# Altium footprint library PH2.0.PcbLib: 64 footprints (part 2 of 4)
Each footprint in its own frame and in the unit in brackets; x right, y up, seen from the top. Pads: shape width x height; smd on the part's side, far side on the other; paste and mask are expansions set on the pad; w line width, h text height; cw(c..) or ccw(c..) is an arc to the next point about the centre after c.
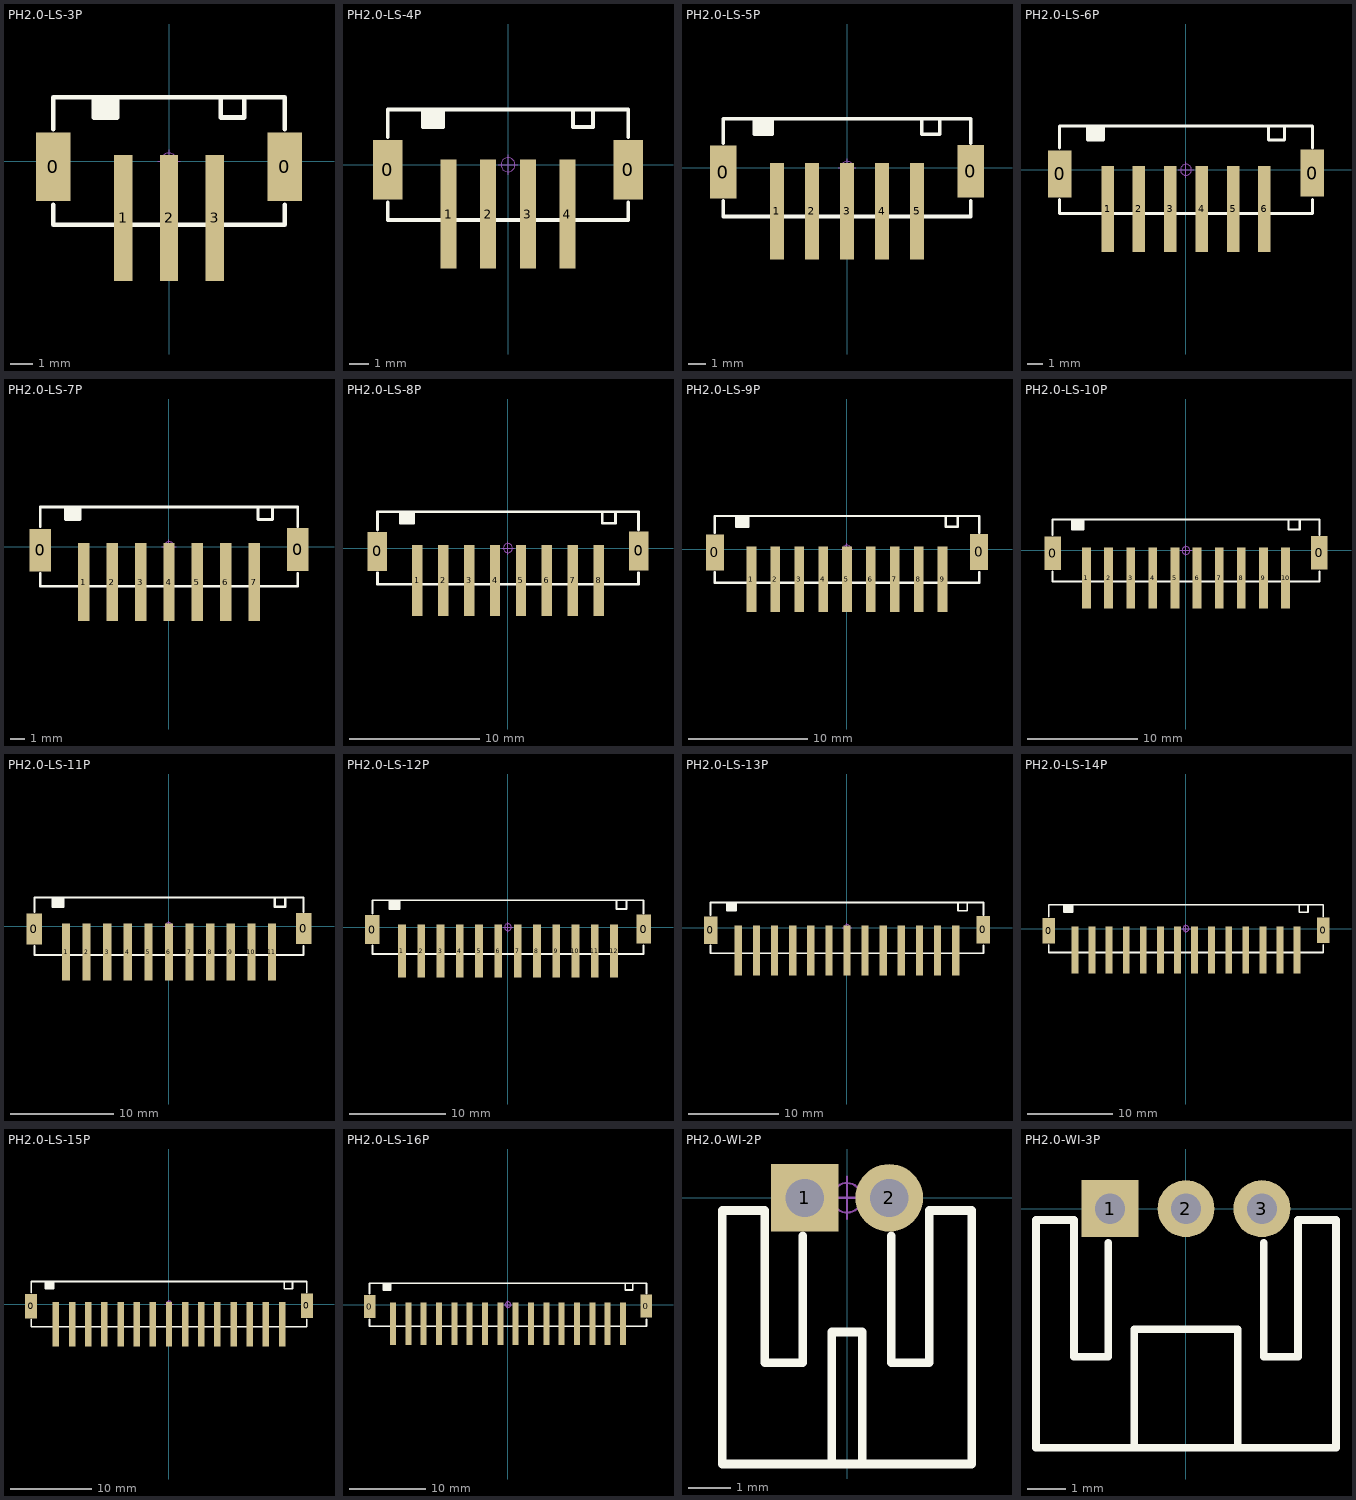
[diagram p1: the footprints below, top view; thin cyan lines are the x and y axes]

## PH2.0-LS-3P [mm] "长：10mm，宽：5.5mm，高：6.1mm"
pads (5):
  rect 1.5x3 smd: 0(-5.064,-0.254) 0(5.064,-0.254)
  rect 0.8x5.5 smd: 1(-2,-2.492) 2(0,-2.492) 3(2,-2.492)
Top Overlay:
  rectangle: -3.286,1.905 -2.27,2.794
  lines w0.2: -5.064,-1.905 -5.064,-2.794 5.064,-2.794 5.064,-1.905 ; -5.064,1.397 -5.064,2.794 5.064,2.794 5.064,1.397 ; -3.286,2.794 -3.286,1.905 -2.27,1.905 -2.27,2.794 ; 2.27,2.794 2.27,1.905 3.286,1.905 3.286,2.794
Mechanical 15:
  circle w0.05: c0,0 r0.35
  lines w0.05: -0.5,0 0.5,0 ; 0,-0.5 0,0.5
3D body: height 6.15, standoff 0, extent -5,-5.05 5,2.75

## PH2.0-LS-4P [mm] "长：12mm，宽：5.5mm，高：6.1mm"
pads (6):
  rect 1.5x3 smd: 0(-6.064,-0.254) 0(6.064,-0.254)
  rect 0.8x5.5 smd: 1(-3,-2.492) 2(-1,-2.492) 3(1,-2.492) 4(3,-2.492)
Top Overlay:
  rectangle: -4.286,1.905 -3.27,2.794
  lines w0.2: -6.064,-1.905 -6.064,-2.794 6.064,-2.794 6.064,-1.905 ; -6.064,1.397 -6.064,2.794 6.064,2.794 6.064,1.397 ; -4.286,2.794 -4.286,1.905 -3.27,1.905 -3.27,2.794 ; 3.27,2.794 3.27,1.905 4.286,1.905 4.286,2.794
Mechanical 15:
  circle w0.05: c0,0 r0.35
  lines w0.05: -0.5,0 0.5,0 ; 0,-0.5 0,0.5
3D body: height 6.15, standoff 0, extent -6,-5.05 6,2.75

## PH2.0-LS-5P [mm] "长：14mm，宽：5.5mm，高：6.1mm"
pads (7):
  rect 1.5x3 smd: 0(-7.064,-0.254) 0(7.064,-0.206)
  rect 0.8x5.5 smd: 1(-4,-2.492) 2(-2,-2.492) 3(0,-2.492) 4(2,-2.492) 5(4,-2.492)
Top Overlay:
  rectangle: -5.286,1.905 -4.27,2.794
  lines w0.2: -7.064,-1.905 -7.064,-2.794 7.064,-2.794 7.064,-1.905 ; -7.064,1.397 -7.064,2.794 7.064,2.794 7.064,1.397 ; -5.286,2.794 -5.286,1.905 -4.27,1.905 -4.27,2.794 ; 4.27,2.794 4.27,1.905 5.286,1.905 5.286,2.794
Mechanical 15:
  circle w0.05: c0,0 r0.35
  lines w0.05: -0.5,0 0.5,0 ; 0,-0.5 0,0.5
3D body: height 6.15, standoff 0, extent -7,-5.05 7,2.75

## PH2.0-LS-6P [mm] "长：16mm，宽：5.5mm，高：6.1mm"
pads (8):
  rect 1.5x3 smd: 0(-8.064,-0.254) 0(8.064,-0.206)
  rect 0.8x5.5 smd: 1(-5,-2.492) 2(-3,-2.492) 3(-1,-2.492) 4(1,-2.492) 5(3,-2.492) 6(5,-2.492)
Top Overlay:
  rectangle: -6.286,1.905 -5.27,2.794
  lines w0.2: -8.064,-1.905 -8.064,-2.794 8.064,-2.794 8.064,-1.905 ; -8.064,1.397 -8.064,2.794 8.064,2.794 8.064,1.397 ; -6.286,2.794 -6.286,1.905 -5.27,1.905 -5.27,2.794 ; 5.27,2.794 5.27,1.905 6.286,1.905 6.286,2.794
Mechanical 15:
  circle w0.05: c0,0 r0.35
  lines w0.05: -0.5,0 0.5,0 ; 0,-0.5 0,0.5
3D body: height 6.15, standoff 0, extent -8,-5.05 8,2.75

## PH2.0-LS-7P [mm] "长：18mm，宽：5.5mm，高：6.1mm"
pads (9):
  rect 1.5x3 smd: 0(-9.064,-0.254) 0(9.064,-0.206)
  rect 0.8x5.5 smd: 1(-6,-2.492) 2(-4,-2.492) 3(-2,-2.492) 4(0,-2.492) 5(2,-2.492) 6(4,-2.492) 7(6,-2.492)
Top Overlay:
  rectangle: -7.286,1.905 -6.27,2.794
  lines w0.2: -9.064,-1.905 -9.064,-2.794 9.064,-2.794 9.064,-1.905 ; -9.064,1.397 -9.064,2.794 9.064,2.794 9.064,1.397 ; -7.286,2.794 -7.286,1.905 -6.27,1.905 -6.27,2.794 ; 6.27,2.794 6.27,1.905 7.286,1.905 7.286,2.794
Mechanical 15:
  circle w0.05: c0,0 r0.35
  lines w0.05: -0.5,0 0.5,0 ; 0,-0.5 0,0.5
3D body: height 6.15, standoff 0, extent -9,-5.05 9,2.75

## PH2.0-LS-8P [mm] "长：20mm，宽：5.5mm，高：6.1mm"
pads (10):
  rect 1.5x3 smd: 0(-10.064,-0.254) 0(10.064,-0.206)
  rect 0.8x5.5 smd: 1(-7,-2.492) 2(-5,-2.492) 3(-3,-2.492) 4(-1,-2.492) 5(1,-2.492) 6(3,-2.492) 7(5,-2.492) 8(7,-2.492)
Top Overlay:
  rectangle: -8.286,1.905 -7.27,2.794
  lines w0.2: -10.064,-1.905 -10.064,-2.794 10.064,-2.794 10.064,-1.905 ; -10.064,1.397 -10.064,2.794 10.064,2.794 10.064,1.397 ; -8.286,2.794 -8.286,1.905 -7.27,1.905 -7.27,2.794 ; 7.27,2.794 7.27,1.905 8.286,1.905 8.286,2.794
Mechanical 15:
  circle w0.05: c0,0 r0.35
  lines w0.05: -0.5,0 0.5,0 ; 0,-0.5 0,0.5
3D body: height 6.15, standoff 0, extent -10,-5.05 10,2.75

## PH2.0-LS-9P [mm] "长：22mm，宽：5.5mm，高：6.1mm"
pads (11):
  rect 1.5x3 smd: 0(-11.064,-0.254) 0(11.064,-0.206)
  rect 0.8x5.5 smd: 1(-8,-2.492) 2(-6,-2.492) 3(-4,-2.492) 4(-2,-2.492) 5(0,-2.492) 6(2,-2.492) 7(4,-2.492) 8(6,-2.492) 9(8,-2.492)
Top Overlay:
  rectangle: -9.286,1.905 -8.27,2.794
  lines w0.2: -11.064,-1.905 -11.064,-2.794 11.064,-2.794 11.064,-1.905 ; -11.064,1.397 -11.064,2.794 11.064,2.794 11.064,1.397 ; -9.286,2.794 -9.286,1.905 -8.27,1.905 -8.27,2.794 ; 8.27,2.794 8.27,1.905 9.286,1.905 9.286,2.794
Mechanical 15:
  circle w0.05: c0,0 r0.35
  lines w0.05: -0.5,0 0.5,0 ; 0,-0.5 0,0.5
3D body: height 6.15, standoff 0, extent -11,-5.05 11,2.75

## PH2.0-LS-10P [mm] "长：24mm，宽：5.5mm，高：6.1mm"
pads (12):
  rect 1.5x3 smd: 0(-12.064,-0.254) 0(12.064,-0.206)
  rect 0.8x5.5 smd: 1(-9,-2.492) 2(-7,-2.492) 3(-5,-2.492) 4(-3,-2.492) 5(-1,-2.492) 6(1,-2.492) 7(3,-2.492) 8(5,-2.492) 9(7,-2.492)
  rect 0.8x5.5 smd mask+0.102: 10(9,-2.492)
Top Overlay:
  rectangle: -10.286,1.905 -9.27,2.794
  lines w0.2: -12.064,-1.905 -12.064,-2.794 12.064,-2.794 12.064,-1.905 ; -12.064,1.397 -12.064,2.794 12.064,2.794 12.064,1.397 ; -10.286,2.794 -10.286,1.905 -9.27,1.905 -9.27,2.794 ; 9.27,2.794 9.27,1.905 10.286,1.905 10.286,2.794
Mechanical 15:
  circle w0.05: c0,0 r0.35
  lines w0.05: -0.5,0 0.5,0 ; 0,-0.5 0,0.5
3D body: height 6.15, standoff 0, extent -12,-5.05 12,2.75

## PH2.0-LS-11P [mm] "长：26mm，宽：5.5mm，高：6.1mm"
pads (13):
  rect 1.5x3 smd: 0(-13.064,-0.254) 0(13.064,-0.206)
  rect 0.8x5.5 smd: 1(-10,-2.492) 2(-8,-2.492) 3(-6,-2.492) 4(-4,-2.492) 5(-2,-2.492) 6(0,-2.492) 7(2,-2.492) 8(4,-2.492) 9(6,-2.492)
  rect 0.8x5.5 smd mask+0.102: 10(8,-2.492) 11(10,-2.492)
Top Overlay:
  rectangle: -11.286,1.905 -10.27,2.794
  lines w0.2: -13.064,-1.905 -13.064,-2.794 13.064,-2.794 13.064,-1.905 ; -13.064,1.397 -13.064,2.794 13.064,2.794 13.064,1.397 ; -11.286,2.794 -11.286,1.905 -10.27,1.905 -10.27,2.794 ; 10.27,2.794 10.27,1.905 11.286,1.905 11.286,2.794
Mechanical 15:
  circle w0.05: c0,0 r0.35
  lines w0.05: -0.5,0 0.5,0 ; 0,-0.5 0,0.5
3D body: height 6.15, standoff 0, extent -13,-5.05 13,2.75

## PH2.0-LS-12P [mm] "长：28mm，宽：5.5mm，高：6.1mm"
pads (14):
  rect 1.5x3 smd: 0(-14.064,-0.254) 0(14.064,-0.206)
  rect 0.8x5.5 smd: 1(-11,-2.492) 2(-9,-2.492) 3(-7,-2.492) 4(-5,-2.492) 5(-3,-2.492) 6(-1,-2.492) 7(1,-2.492) 8(3,-2.492) 9(5,-2.492)
  rect 0.8x5.5 smd mask+0.102: 10(7,-2.492) 11(9,-2.492) 12(11,-2.492)
Top Overlay:
  rectangle: -12.286,1.905 -11.27,2.794
  lines w0.2: -14.064,-1.905 -14.064,-2.794 14.064,-2.794 14.064,-1.905 ; -14.064,1.397 -14.064,2.794 14.064,2.794 14.064,1.397 ; -12.286,2.794 -12.286,1.905 -11.27,1.905 -11.27,2.794 ; 11.27,2.794 11.27,1.905 12.286,1.905 12.286,2.794
Mechanical 15:
  circle w0.05: c0,0 r0.35
  lines w0.05: -0.5,0 0.5,0 ; 0,-0.5 0,0.5
3D body: height 6.15, standoff 0, extent -14,-5.05 14,2.75

## PH2.0-LS-13P [mm] "长：30mm，宽：5.5mm，高：6.1mm"
pads (15):
  rect 1.5x3 smd: 0(-15.064,-0.254) 0(15.064,-0.206)
  rect 0.8x5.5 smd: 1(-12,-2.492) 2(-10,-2.492) 3(-8,-2.492) 4(-6,-2.492) 5(-4,-2.492) 6(-2,-2.492) 7(0,-2.492) 8(2,-2.492) 9(4,-2.492)
  rect 0.8x5.5 smd mask+0.102: 10(6,-2.492) 11(8,-2.492) 12(10,-2.492) 13(12,-2.492)
Top Overlay:
  rectangle: -13.286,1.905 -12.27,2.794
  lines w0.2: -15.064,-1.905 -15.064,-2.794 15.064,-2.794 15.064,-1.905 ; -15.064,1.397 -15.064,2.794 15.064,2.794 15.064,1.397 ; -13.286,2.794 -13.286,1.905 -12.27,1.905 -12.27,2.794 ; 12.27,2.794 12.27,1.905 13.286,1.905 13.286,2.794
Mechanical 15:
  circle w0.05: c0,0 r0.35
  lines w0.05: -0.5,0 0.5,0 ; 0,-0.5 0,0.5
3D body: height 6.15, standoff 0, extent -15,-5.05 15,2.75

## PH2.0-LS-14P [mm] "长：32mm，宽：5.5mm，高：6.1mm"
pads (16):
  rect 1.5x3 smd: 0(-16.064,-0.254) 0(16.064,-0.206)
  rect 0.8x5.5 smd: 1(-13,-2.492) 2(-11,-2.492) 3(-9,-2.492) 4(-7,-2.492) 5(-5,-2.492) 6(-3,-2.492) 7(-1,-2.492) 8(1,-2.492) 9(3,-2.492)
  rect 0.8x5.5 smd mask+0.102: 10(5,-2.492) 11(7,-2.492) 12(9,-2.492) 13(11,-2.492) 14(13,-2.492)
Top Overlay:
  rectangle: -14.286,1.905 -13.27,2.794
  lines w0.2: -16.064,-1.905 -16.064,-2.794 16.064,-2.794 16.064,-1.905 ; -16.064,1.397 -16.064,2.794 16.064,2.794 16.064,1.397 ; -14.286,2.794 -14.286,1.905 -13.27,1.905 -13.27,2.794 ; 13.27,2.794 13.27,1.905 14.286,1.905 14.286,2.794
Mechanical 15:
  circle w0.05: c0,0 r0.35
  lines w0.05: -0.5,0 0.5,0 ; 0,-0.5 0,0.5
3D body: height 6.15, standoff 0, extent -16,-5.05 16,2.75

## PH2.0-LS-15P [mm] "长：34mm，宽：5.5mm，高：6.1mm"
pads (17):
  rect 1.5x3 smd: 0(-17.064,-0.254) 0(17.064,-0.206)
  rect 0.8x5.5 smd: 1(-14,-2.492) 2(-12,-2.492) 3(-10,-2.492) 4(-8,-2.492) 5(-6,-2.492) 6(-4,-2.492) 7(-2,-2.492) 8(0,-2.492) 9(2,-2.492)
  rect 0.8x5.5 smd mask+0.102: 10(4,-2.492) 11(6,-2.492) 12(8,-2.492) 13(10,-2.492) 14(12,-2.492) 15(14,-2.492)
Top Overlay:
  rectangle: -15.286,1.905 -14.27,2.794
  lines w0.2: -17.064,-1.905 -17.064,-2.794 17.064,-2.794 17.064,-1.905 ; -17.064,1.397 -17.064,2.794 17.064,2.794 17.064,1.397 ; -15.286,2.794 -15.286,1.905 -14.27,1.905 -14.27,2.794 ; 14.27,2.794 14.27,1.905 15.286,1.905 15.286,2.794
Mechanical 15:
  circle w0.05: c0,0 r0.35
  lines w0.05: -0.5,0 0.5,0 ; 0,-0.5 0,0.5
3D body: height 6.15, standoff 0, extent -17,-5.05 17,2.75

## PH2.0-LS-16P [mm] "长：36mm，宽：5.5mm，高：6.1mm"
pads (18):
  rect 1.5x3 smd: 0(-18.064,-0.254) 0(18.064,-0.206)
  rect 0.8x5.5 smd: 1(-15,-2.492) 2(-13,-2.492) 3(-11,-2.492) 4(-9,-2.492) 5(-7,-2.492) 6(-5,-2.492) 7(-3,-2.492) 8(-1,-2.492) 9(1,-2.492)
  rect 0.8x5.5 smd mask+0.102: 10(3,-2.492) 11(5,-2.492) 12(7,-2.492) 13(9,-2.492) 14(11,-2.492) 15(13,-2.492) 16(15,-2.492)
Top Overlay:
  rectangle: -16.286,1.905 -15.27,2.794
  lines w0.2: -18.064,-1.905 -18.064,-2.794 18.064,-2.794 18.064,-1.905 ; -18.064,1.397 -18.064,2.794 18.064,2.794 18.064,1.397 ; -16.286,2.794 -16.286,1.905 -15.27,1.905 -15.27,2.794 ; 15.27,2.794 15.27,1.905 16.286,1.905 16.286,2.794
Mechanical 15:
  circle w0.05: c0,0 r0.35
  lines w0.05: -0.5,0 0.5,0 ; 0,-0.5 0,0.5
3D body: height 6.15, standoff 0, extent -18,-5.05 18,2.75

## PH2.0-WI-2P [mm] "长：5.9mm，宽：6mm，高：4.7mm"
height 10
pads (2):
  rect 1.6x1.6 hole 0.9: 1(-1,0)
  round 1.6 hole 0.9: 2(1,0)
Top Overlay:
  lines w0.203: -1.05,-0.9 -1.05,-3.9 -1.95,-3.9 -1.95,-3.3 -1.95,-0.3 -2,-0.3 -2.95,-0.3 -2.95,-6.3 2.95,-6.3 2.95,-0.3 2,-0.3 1.95,-0.3 1.95,-3.3 1.95,-3.9 1.05,-3.9 1.05,-0.9 ; -0.365,-6.215 -0.365,-3.175 0.365,-3.175 0.365,-6.215
Mechanical 15:
  circle w0.05: c0,0 r0.35
  lines w0.05: -0.5,0 0.5,0 ; 0,-0.5 0,0.5
3D body: height 4.75, standoff -2.65, extent -2.95,-6.3 2.95,0.3

## PH2.0-WI-3P [mm] "长：7.9mm，宽：6mm，高：4.7mm"
height 10
pads (3):
  rect 1.5x1.5 hole 0.8: 1(-2,0)
  round 1.5 hole 0.8: 2(0,0) 3(2,0)
Top Overlay:
  lines w0.203: -2.05,-0.9 -2.05,-3.9 -2.95,-3.9 -2.95,-3.3 -2.95,-0.3 -3,-0.3 -3.95,-0.3 -3.95,-6.3 3.95,-6.3 3.95,-0.3 3,-0.3 2.95,-0.3 2.95,-3.3 2.95,-3.9 2.05,-3.9 2.05,-0.9 ; -1.365,-6.215 -1.365,-3.175 1.365,-3.175 1.365,-6.215
Mechanical 15:
  circle w0.05: c0,0 r0.35
  lines w0.05: -0.5,0 0.5,0 ; 0,-0.5 0,0.5
3D body: height 4.75, standoff -2.65, extent -3.95,-6.3 3.95,0.3